# EAGLE library part MAX2769 (library max2769)
MAX2769 Universal GPS Receiver IC Package Land Pattern [T2855-3/T2855-3+] http://pdfserv.maxim-ic.com/land_patterns/90-0023.PDF Thin Quad Flatpack, No Leads http://pdfserv.maxim-ic.com/package_dwgs/21-0140.PDF Related Datasheet http://www.maxim-ic.com/datasheet/index.mvp/id/5241
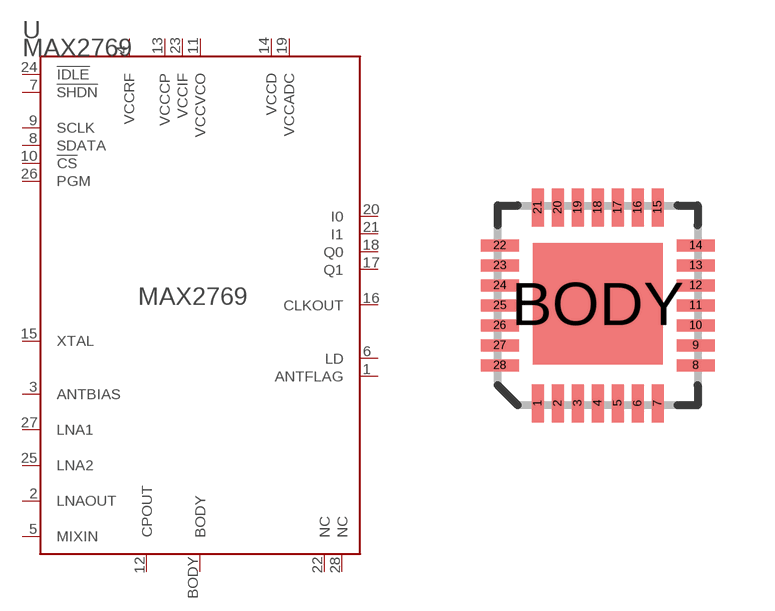
[diagram p0: symbol with the pads of 90-0023; footprint 90-0023]

Designator prefix U

## MAX2769  [90-0023]
1  ANTFLAG  out
2  LNAOUT  pas
3  ANTBIAS  out
4  VCCRF  pwr
5  MIXIN  pas
6  LD  out
7  !SHDN  in
8  SDATA
9  SCLK  in
10  !CS  in
11  VCCVCO  pwr
12  CPOUT  pas
13  VCCCP  pwr
14  VCCD  pwr
15  XTAL  in
16  CLKOUT  out
17  Q1  out
18  Q0  out
19  VCCADC  pwr
20  I0  out
21  I1  out
22  NC  nc
23  VCCIF  pwr
24  !IDLE  in
25  LNA2  pas
26  PGM  in
27  LNA1  pas
28  NC  nc
BODY  BODY  pwr

## Footprint 90-0023 (pad centres in mm)
90-0023 from MAXIM Title is Package Land Pattern [T2855-3/T2855-3+] http://pdfserv.maxim-ic.com/land_patterns/90-0023.PDF
smd 0.3 x 0.95: 1 -1.5,-2.45; 2 -1,-2.45; 3 -0.5,-2.45; 4 0,-2.45; 5 0.5,-2.45; 6 1,-2.45; 7 1.5,-2.45; 15 1.5,2.45; 16 1,2.45; 17 0.5,2.45; 18 0,2.45; 19 -0.5,2.45; 20 -1,2.45; 21 -1.5,2.45
smd 0.95 x 0.3: 8 2.45,-1.5; 9 2.45,-1; 10 2.45,-0.5; 11 2.45,0; 12 2.45,0.5; 13 2.45,1; 14 2.45,1.5; 22 -2.45,1.5; 23 -2.45,1; 24 -2.45,0.5; 25 -2.45,0; 26 -2.45,-0.5; 27 -2.45,-1; 28 -2.45,-1.5
smd 3.25 x 3.048: BODY 0,0.038